# Altium footprint library SFE-Custom-Footprints.PcbLib: 154 footprints (part 7 of 10)
Each footprint in its own frame and in the unit in brackets; x right, y up, seen from the top. Pads: shape width x height; smd on the part's side, far side on the other; paste and mask are expansions set on the pad; w line width, h text height; cw(c..) or ccw(c..) is an arc to the next point about the centre after c.
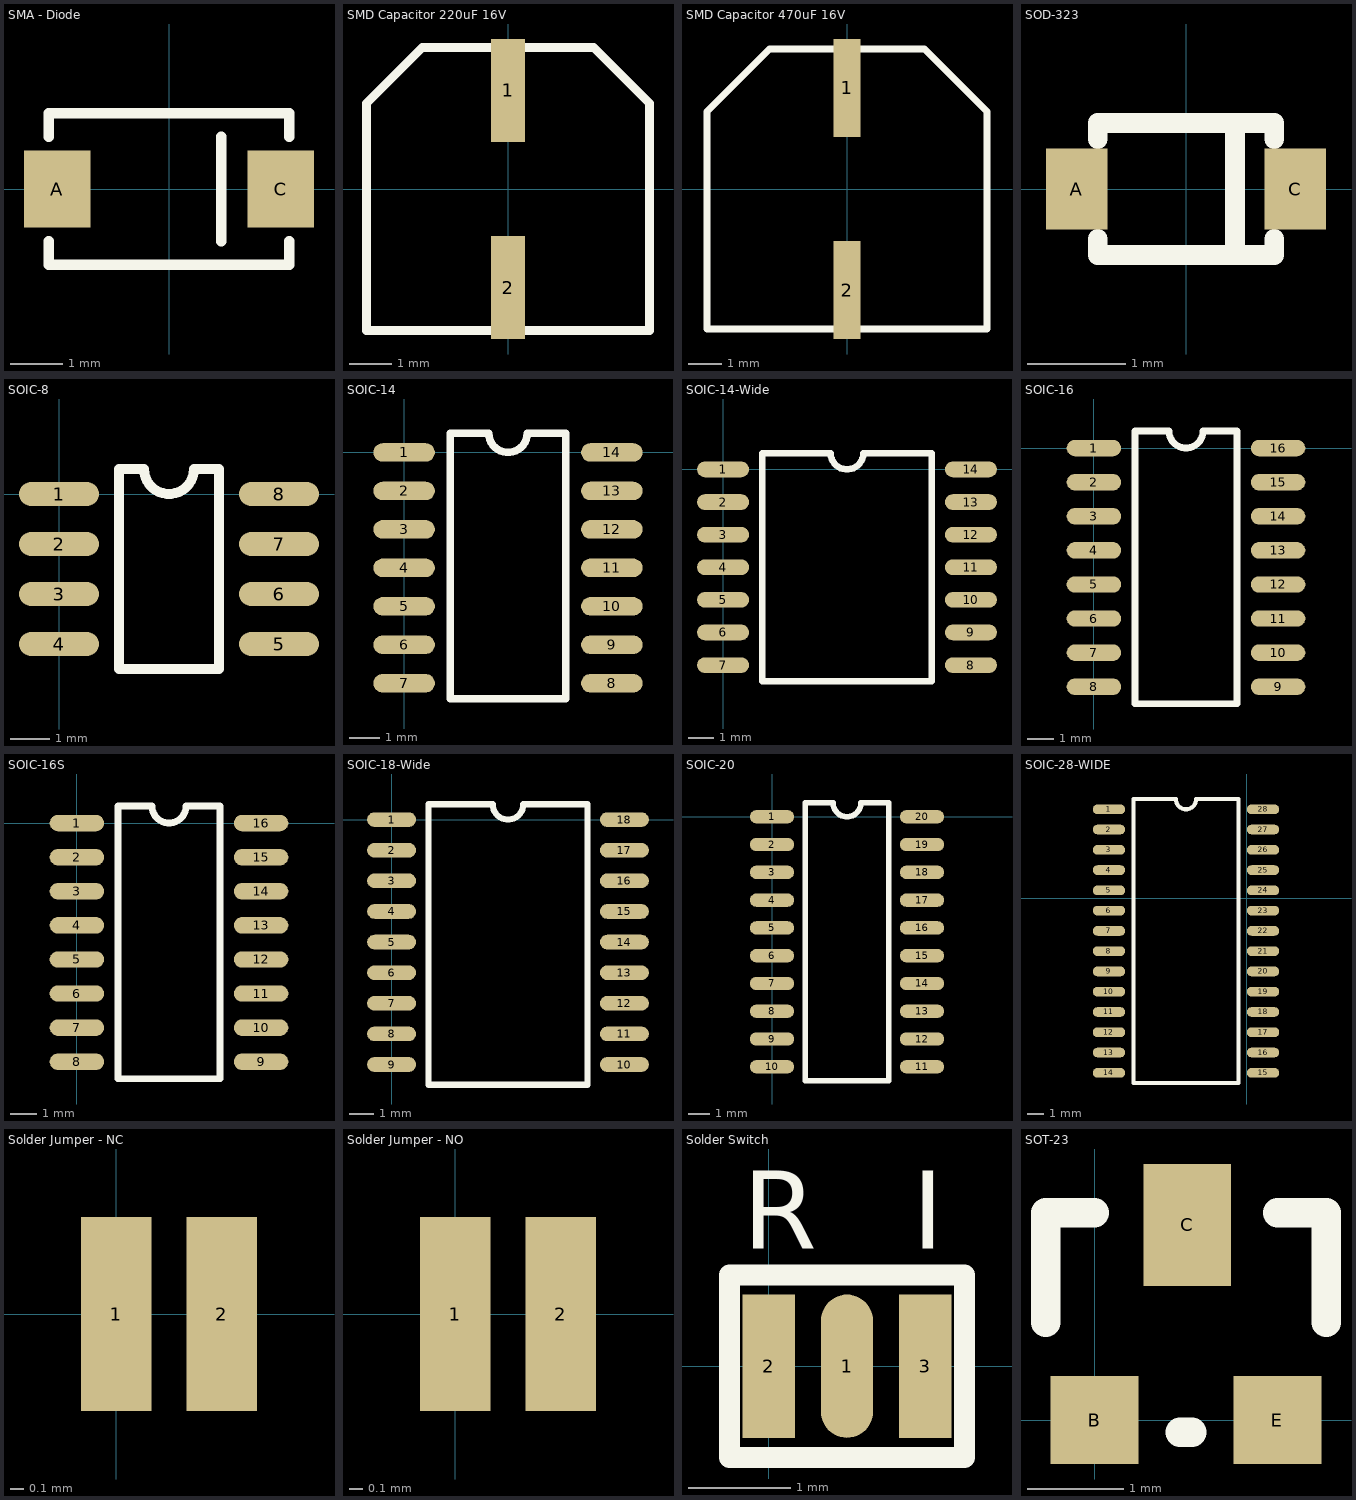
[diagram p6: the footprints below, top view; thin cyan lines are the x and y axes]

## SMA - Diode [mm]
pads (2):
  rect 1.27x1.47 smd: A(-2.13,0) C(2.13,0)
Top Overlay:
  lines w0.203: -2.3,-1 -2.3,-1.45 2.3,-1.45 2.3,-1 ; -2.3,1 -2.3,1.45 2.3,1.45 2.3,1 ; 1,-1 1,1

## SMD Capacitor 220uF 16V [mm]
pads (2):
  rect 0.8x2.4 smd: 1(0,2.3) 2(0,-2.3)
Top Overlay:
  lines w0.203: -3.3,-3.3 3.3,-3.3 3.3,2 2,3.3 -2,3.3 -3.3,2 -3.3,-3.3

## SMD Capacitor 470uF 16V [mm]
pads (2):
  rect 0.8x2.9 smd: 1(0,3) 2(0,-3)
Top Overlay:
  lines w0.203: -4.15,-4.15 4.15,-4.15 4.15,2.3 2.3,4.15 -2.3,4.15 -4.15,2.3 -4.15,-4.15

## SOD-323 [mm]
pads (2):
  rect 0.63x0.83 smd: A(-1.115,0) C(1.115,0)
Top Overlay:
  lines w0.203: -0.9,-0.508 -0.9,-0.675 0.9,-0.675 0.9,-0.508 ; -0.9,0.508 -0.9,0.675 0.9,0.675 0.9,0.508 ; 0.5,-0.635 0.5,0.635

## SOIC-8 [mil]
pads (8):
  oval 80x24 smd: 1(0,0) 2(0,-50) 3(0,-100) 4(0,-150) 5(220,-150) 6(220,-100) 7(220,-50) 8(220,0)
Top Overlay:
  lines w10: 60,-175 60,25 85,25 ccw(c110,25) 135,25 160,25 160,-175 60,-175
3D body: height 68.9, standoff 0.01, extent -9.25,-173.21 227.43,23.64

## SOIC-14 [mil]
pads (14):
  oval 80x24 smd: 1(0,0) 2(0,-50) 3(0,-100) 4(0,-150) 5(0,-200) 6(0,-250) 7(0,-300) 8(270,-300) 9(270,-250) 10(270,-200) 11(270,-150) 12(270,-100) 13(270,-50) 14(270,0)
Top Overlay:
  lines w10: 60,-320 60,25 110,25 ccw(c135,25) 160,25 210,25 210,-320 60,-320

## SOIC-14-Wide [mil]
pads (14):
  oval 80x24 smd: 1(0,0) 2(0,-50) 3(0,-100) 4(0,-150) 5(0,-200) 6(0,-250) 7(0,-300) 8(380,-300) 9(380,-250) 10(380,-200) 11(380,-150) 12(380,-100) 13(380,-50) 14(380,0)
Top Overlay:
  lines w10: 60,-325 320,-325 320,25 215,25 cw(c190,25) 165,25 60,25 60,-325

## SOIC-16 [mil]
pads (16):
  oval 80x24 smd: 1(0,0) 2(0,-50) 3(0,-100) 4(0,-150) 5(0,-200) 6(0,-250) 7(0,-300) 8(0,-350) 9(270,-350) 10(270,-300) 11(270,-250) 12(270,-200) 13(270,-150) 14(270,-100) 15(270,-50) 16(270,0)
Top Overlay:
  lines w10: 60,-375 210,-375 210,25 160,25 cw(c135,25) 110,25 60,25 60,-375

## SOIC-16S [mil]
pads (16):
  oval 80x24 smd: 1(0,0) 2(0,-50) 3(0,-100) 4(0,-150) 5(0,-200) 6(0,-250) 7(0,-300) 8(0,-350) 9(270,-350) 10(270,-300) 11(270,-250) 12(270,-200) 13(270,-150) 14(270,-100) 15(270,-50) 16(270,0)
Top Overlay:
  lines w10: 60,-375 210,-375 210,25 160,25 cw(c135,25) 110,25 60,25 60,-375

## SOIC-18-Wide [mil]
pads (18):
  oval 80x24 smd: 1(0,0) 2(0,-50) 3(0,-100) 4(0,-150) 5(0,-200) 6(0,-250) 7(0,-300) 8(0,-350) 9(0,-400) 10(380,-400) 11(380,-350) 12(380,-300) 13(380,-250) 14(380,-200) 15(380,-150) 16(380,-100) 17(380,-50) 18(380,0)
Top Overlay:
  lines w10: 60,-433.07 60,25 165,25 ccw(c190,25) 215,25 320,25 320,-433.07 60,-433.07

## SOIC-20 [mil]
pads (20):
  oval 80x24 smd: 1(0,0) 2(0,-50) 3(0,-100) 4(0,-150) 5(0,-200) 6(0,-250) 7(0,-300) 8(0,-350) 9(0,-400) 10(0,-450) 11(270,-450) 12(270,-400) 13(270,-350) 14(270,-300) 15(270,-250) 16(270,-200) 17(270,-150) 18(270,-100) 19(270,-50) 20(270,0)
Top Overlay:
  lines w10: 60,-475 210,-475 210,25 160,25 cw(c135,25) 110,25 60,25 60,-475

## SOIC-28-WIDE [mil]
pads (28):
  oval 80x24 smd: 1(-340,220) 2(-340,170) 3(-340,120) 4(-340,70) 5(-340,20) 6(-340,-30) 7(-340,-80) 8(-340,-130) 9(-340,-180) 10(-340,-230) 11(-340,-280) 12(-340,-330) 13(-340,-380) 14(-340,-430) 15(40,-430) 16(40,-380) 17(40,-330) 18(40,-280) 19(40,-230) 20(40,-180) 21(40,-130) 22(40,-80) 23(40,-30) 24(40,20) 25(40,70) 26(40,120) 27(40,170) 28(40,220)
Top Overlay:
  lines w10: -280,-455 -280,245 -175,245 ccw(c-150,245) -125,245 -20,245 -20,-455 -280,-455

## Solder Jumper - NC [mil]
pads (2):
  rect 20x55 smd paste+12: 1(0,0) 2(30,0)

## Solder Jumper - NO [mil]
pads (2):
  rect 20x55 smd paste+0: 1(0,0) 2(30,0)

## Solder Switch [mil]
pads (3):
  oval 20x55 smd: 1(30,0)
  rect 20x55 smd: 2(0,0) 3(60,0)
Top Overlay:
  lines w8: -15,-35 -15,35 75,35 75,-35 -15,-35
  text "I" at 55,45 h30
  text "R" at -10,45 h30

## SOT-23 [mil]
pads (3):
  rect 36x36 smd: B(0,0) E(75,0)
  rect 36x50 smd: C(38,80)
Top Overlay:
  lines w12: -20,40 -20,85 0,85 ; 35,-5 40,-5 ; 75,85 95,85 95,40